# Altium schematic symbol library ISZ330N12LM6ATMA1.Schlib: 1 symbol
Pins are listed as number, name and electrical type; pins without a type are passive.

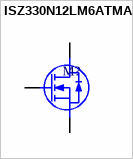
[diagram p0: symbol ISZ330N12LM6ATMA1]

## ISZ330N12LM6ATMA1
designator M?
120V 24A N-Channel
pins: 1 S, 2 G, 3 D